# EAGLE library part WS2801 (library PowerTechLIB2)
PowerTech WS2801 PWM LED Driver used in 10W addr pcb
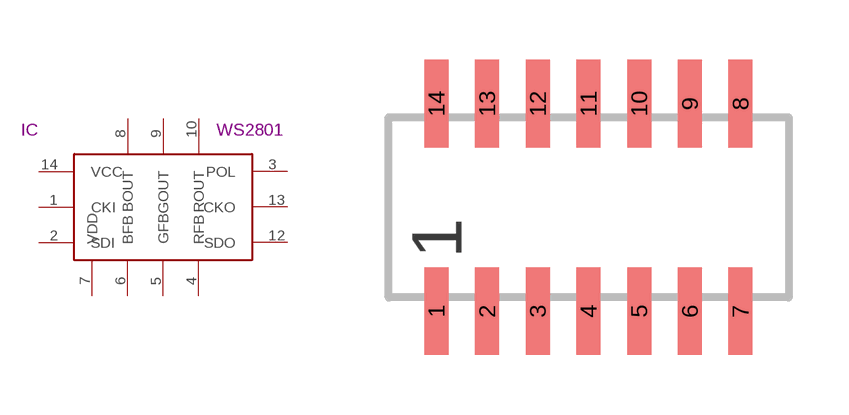
[diagram p5: symbol with the pads of SOP14; footprint SOP14]

Designator prefix IC

## WS2801  [SOP14]
1  CKI
2  SDI
3  POL
4  RFB
5  GFB
6  BFB
7  VDD
8  BOUT
9  GOUT
10  ROUT
12  SDO
13  CKO
14  VCC

## Footprint SOP14 (pad centres in mm)
SMALL OUTLINE PACKAGE
smd 0.6 x 2.2: 1 -3.81,-2.6; 2 -2.54,-2.6; 3 -1.27,-2.6; 4 0,-2.6; 5 1.27,-2.6; 6 2.54,-2.6; 7 3.81,-2.6; 8 3.81,2.6; 9 2.54,2.6; 10 1.27,2.6; 11 0,2.6; 12 -1.27,2.6; 13 -2.54,2.6; 14 -3.81,2.6